# EAGLE library part 2*6HEADER (library MCP3903)
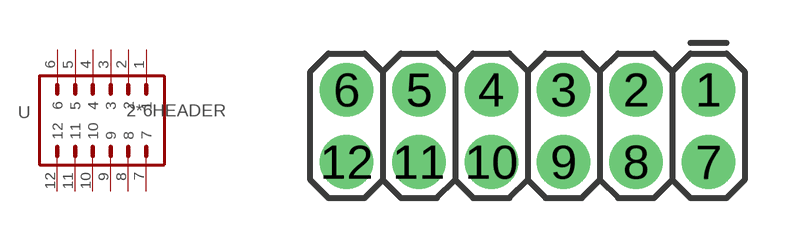
[diagram p1: symbol with the pads of 2*6HEADER; footprint 2*6HEADER]

Designator prefix -

## 26HEADER  [2*6HEADER]
1  1  pas
2  2  pas
3  3  pas
4  4  pas
5  5  pas
6  6  pas
7  7  pas
8  8  pas
9  9  pas
10  10  pas
11  11  pas
12  12  pas

## Footprint 2*6HEADER (pad centres in mm)
drill 1.016 pad 1.88: 1 6.35,1.27; 2 3.81,1.27; 3 1.27,1.27; 4 -1.27,1.27; 5 -3.81,1.27; 6 -6.35,1.27; 7 6.35,-1.27; 8 3.81,-1.27; 9 1.27,-1.27; 10 -1.27,-1.27; 11 -3.81,-1.27; 12 -6.35,-1.27